# Altium schematic symbol library 电子幸运转盘电路设计.SCHLIB: 9 symbols
Pins are listed as number, name and electrical type; pins without a type are passive.

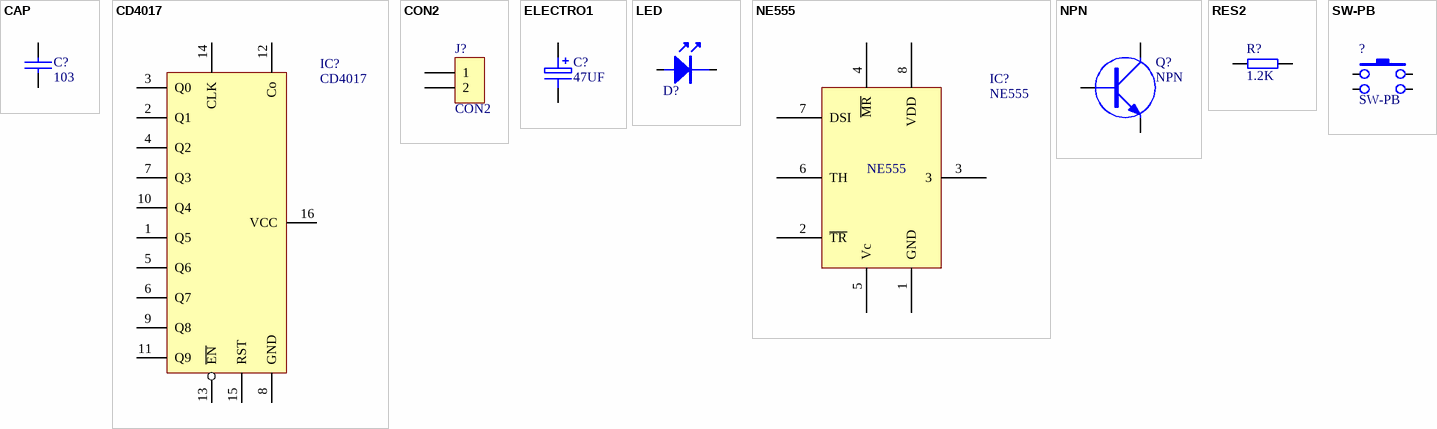
[diagram p0: symbols CAP to SW-PB]

## CAP
designator C?, comment 103
Capacitor
footprint RAD0.1
footprint RAD0.2
footprint R/C0805
footprint R/C1206
footprint R/C0805
pins: 1, 2

## CD4017
designator IC?
footprint DIP16
footprint SO-16
pins: 1 Q5, 2 Q1, 3 Q0, 4 Q2, 5 Q6, 6 Q7, 7 Q3, 8 GND, 9 Q8, 10 Q4, 11 Q9, 12 Co, 13 ~{EN}, 14 CLK, 15 RST, 16 VCC

## CON2
designator J?
Connector
footprint SIP2
footprint 5.08-S201
pins: 1, 2

## ELECTRO1
designator C?, comment 47UF
Electrolytic Capacitor
footprint RB.1/.2
footprint RB.2/.4
pins: 1, 2

## LED
designator D?  (value not drawn)
footprint LED
footprint D0805
pins: A, K

## NE555
designator IC?
pins: 1 GND, 2 ~{TR}, 3, 4 ~{MR}, 5 Vc, 6 TH, 7 DSI, 8 VDD

## NPN
designator Q?
footprint TO-92C
footprint TO-92D
footprint TO-39A
pins: B, C, E

## RES2
designator R?, comment 1.2K
footprint AXIAL0.3
footprint AXIAL0.4
footprint AXIAL0.1
footprint AXIAL1.0
footprint R/C0805
footprint R/C0805
pins: 1, 2

## SW-PB
designator ?
footprint SWPB
pins: 1, 2, 3, 4